# EAGLE library part CP2102-GMR (library cp2102n)
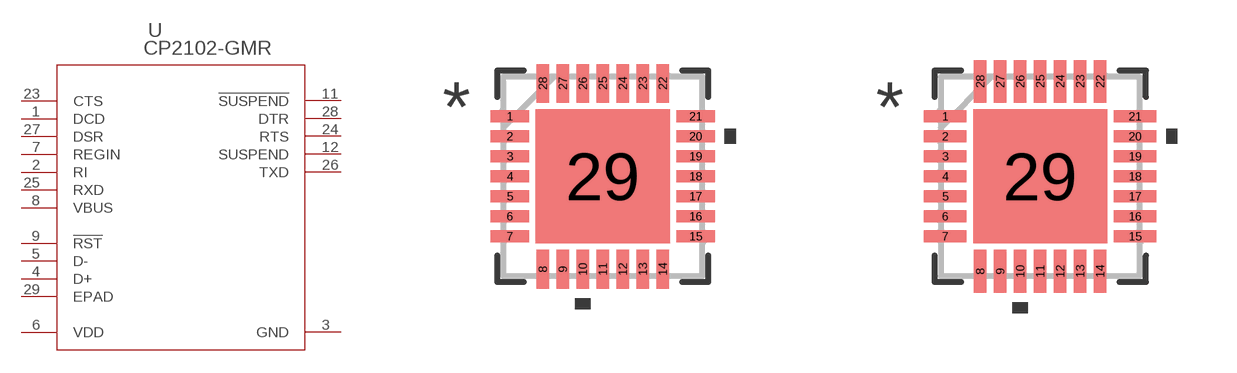
[diagram p0: symbol with the pads of QFN28_5X5; footprints QFN28_5X5, QFN28_5X5-M]

Designator prefix U

## CP2102-GMR (MANUFACTURER_PART_NUMBER: CP2102GMR; VENDOR: Silicon Labs)  [QFN28_5X5]
1  DCD  in
2  RI  in
3  GND  pwr
4  D+
5  D-
6  VDD  pwr
7  REGIN  in
8  VBUS  in
9  !RST
11  !SUSPEND  out
12  SUSPEND  out
23  CTS  in
24  RTS  out
25  RXD  in
26  TXD  out
27  DSR  in
28  DTR  out
29  EPAD  pas

## CP2102-GMRQFN28_5X5-M (MANUFACTURER_PART_NUMBER: CP2102GMR; VENDOR: Silicon Labs)  [QFN28_5X5-M]
Pads as for QFN28_5X5

## CP2102-GMRQFN28_5X5-L (MANUFACTURER_PART_NUMBER: CP2102GMR; VENDOR: Silicon Labs)  [QFN28_5X5-L]
Pads as for QFN28_5X5

## Footprint QFN28_5X5 (pad centres in mm)
smd 0.965 x 0.305: 1 -2.324,1.5; 2 -2.324,1; 3 -2.324,0.5; 4 -2.324,0; 5 -2.324,-0.5; 6 -2.324,-1; 7 -2.324,-1.5; 15 2.324,-1.5; 16 2.324,-1; 17 2.324,-0.5; 18 2.324,0; 19 2.324,0.5; 20 2.324,1; 21 2.324,1.5
smd 0.305 x 0.965: 8 -1.5,-2.324; 9 -1,-2.324; 10 -0.5,-2.324; 11 0,-2.324; 12 0.5,-2.324; 13 1,-2.324; 14 1.5,-2.324; 22 1.5,2.324; 23 1,2.324; 24 0.5,2.324; 25 0,2.324; 26 -0.5,2.324; 27 -1,2.324; 28 -1.5,2.324
smd 3.353 x 3.353: 29 0,0

## Footprint QFN28_5X5-M (pad centres in mm)
smd 1.067 x 0.305: 1 -2.375,1.5; 2 -2.375,1; 3 -2.375,0.5; 4 -2.375,0; 5 -2.375,-0.5; 6 -2.375,-1; 7 -2.375,-1.5; 15 2.375,-1.5; 16 2.375,-1; 17 2.375,-0.5; 18 2.375,0; 19 2.375,0.5; 20 2.375,1; 21 2.375,1.5
smd 0.305 x 1.067: 8 -1.5,-2.375; 9 -1,-2.375; 10 -0.5,-2.375; 11 0,-2.375; 12 0.5,-2.375; 13 1,-2.375; 14 1.5,-2.375; 22 1.5,2.375; 23 1,2.375; 24 0.5,2.375; 25 0,2.375; 26 -0.5,2.375; 27 -1,2.375; 28 -1.5,2.375
smd 3.353 x 3.353: 29 0,0

## Footprint QFN28_5X5-L (pad centres in mm)
smd 0.864 x 0.305: 1 -2.273,1.5; 2 -2.273,1; 3 -2.273,0.5; 4 -2.273,0; 5 -2.273,-0.5; 6 -2.273,-1; 7 -2.273,-1.5; 15 2.273,-1.5; 16 2.273,-1; 17 2.273,-0.5; 18 2.273,0; 19 2.273,0.5; 20 2.273,1; 21 2.273,1.5
smd 0.305 x 0.864: 8 -1.5,-2.273; 9 -1,-2.273; 10 -0.5,-2.273; 11 0,-2.273; 12 0.5,-2.273; 13 1,-2.273; 14 1.5,-2.273; 22 1.5,2.273; 23 1,2.273; 24 0.5,2.273; 25 0,2.273; 26 -0.5,2.273; 27 -1,2.273; 28 -1.5,2.273
smd 3.353 x 3.353: 29 0,0